# Altium schematic symbol library power.SchLib: 101 symbols
Pins are listed as number, name and electrical type; pins without a type are passive.

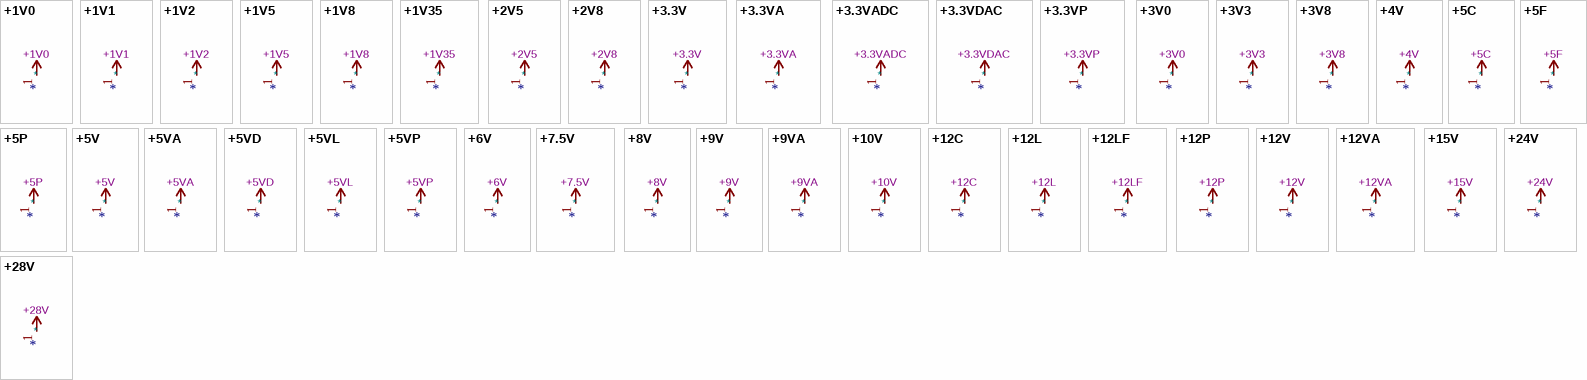
[diagram p0: symbols +1V0 to +28V]

## +1V0
designator *  value +1V0
Power symbol creates a global label with name "+1V0"; Reference: #PWR; ki_keywords: global power; Description_: Power symbol creates a global label with name "+1V0"
pins: 1

## +1V1
designator *  value +1V1
Power symbol creates a global label with name "+1V1"; Reference: #PWR; ki_keywords: global power; Description_: Power symbol creates a global label with name "+1V1"
pins: 1

## +1V2
designator *  value +1V2
Power symbol creates a global label with name "+1V2"; Reference: #PWR; ki_keywords: global power; Description_: Power symbol creates a global label with name "+1V2"
pins: 1

## +1V5
designator *  value +1V5
Power symbol creates a global label with name "+1V5"; Reference: #PWR; ki_keywords: global power; Description_: Power symbol creates a global label with name "+1V5"
pins: 1

## +1V8
designator *  value +1V8
Power symbol creates a global label with name "+1V8"; Reference: #PWR; ki_keywords: global power; Description_: Power symbol creates a global label with name "+1V8"
pins: 1

## +1V35
designator *  value +1V35
Power symbol creates a global label with name "+1V35"; Reference: #PWR; ki_keywords: global power; Description_: Power symbol creates a global label with name "+1V35"
pins: 1

## +2V5
designator *  value +2V5
Power symbol creates a global label with name "+2V5"; Reference: #PWR; ki_keywords: global power; Description_: Power symbol creates a global label with name "+2V5"
pins: 1

## +2V8
designator *  value +2V8
Power symbol creates a global label with name "+2V8"; Reference: #PWR; ki_keywords: global power; Description_: Power symbol creates a global label with name "+2V8"
pins: 1

## +3.3V
designator *  value +3.3V
Power symbol creates a global label with name "+3.3V"; Reference: #PWR; ki_keywords: global power; Description_: Power symbol creates a global label with name "+3.3V"
pins: 1

## +3.3VA
designator *  value +3.3VA
Power symbol creates a global label with name "+3.3VA"; Reference: #PWR; ki_keywords: global power; Description_: Power symbol creates a global label with name "+3.3VA"
pins: 1

## +3.3VADC
designator *  value +3.3VADC
Power symbol creates a global label with name "+3.3VADC"; Reference: #PWR; ki_keywords: global power; Description_: Power symbol creates a global label with name "+3.3VADC"
pins: 1

## +3.3VDAC
designator *  value +3.3VDAC
Power symbol creates a global label with name "+3.3VDAC"; Reference: #PWR; ki_keywords: global power; Description_: Power symbol creates a global label with name "+3.3VDAC"
pins: 1

## +3.3VP
designator *  value +3.3VP
Power symbol creates a global label with name "+3.3VP"; Reference: #PWR; ki_keywords: global power; Description_: Power symbol creates a global label with name "+3.3VP"
pins: 1

## +3V0
designator *  value +3V0
Power symbol creates a global label with name "+3V0"; Reference: #PWR; ki_keywords: global power; Description_: Power symbol creates a global label with name "+3V0"
pins: 1

## +3V3
designator *  value +3V3
Power symbol creates a global label with name "+3V3"; Reference: #PWR; ki_keywords: global power; Description_: Power symbol creates a global label with name "+3V3"
pins: 1

## +3V8
designator *  value +3V8
Power symbol creates a global label with name "+3V8"; Reference: #PWR; ki_keywords: global power; Description_: Power symbol creates a global label with name "+3V8"
pins: 1

## +4V
designator *  value +4V
Power symbol creates a global label with name "+4V"; Reference: #PWR; ki_keywords: global power; Description_: Power symbol creates a global label with name "+4V"
pins: 1

## +5C
designator *  value +5C
Power symbol creates a global label with name "+5C"; Reference: #PWR; ki_keywords: global power; Description_: Power symbol creates a global label with name "+5C"
pins: 1

## +5F
designator *  value +5F
Power symbol creates a global label with name "+5F"; Reference: #PWR; ki_keywords: global power; Description_: Power symbol creates a global label with name "+5F"
pins: 1

## +5P
designator *  value +5P
Power symbol creates a global label with name "+5P"; Reference: #PWR; ki_keywords: global power; Description_: Power symbol creates a global label with name "+5P"
pins: 1

## +5V
designator *  value +5V
Power symbol creates a global label with name "+5V"; Reference: #PWR; ki_keywords: global power; Description_: Power symbol creates a global label with name "+5V"
pins: 1

## +5VA
designator *  value +5VA
Power symbol creates a global label with name "+5VA"; Reference: #PWR; ki_keywords: global power; Description_: Power symbol creates a global label with name "+5VA"
pins: 1

## +5VD
designator *  value +5VD
Power symbol creates a global label with name "+5VD"; Reference: #PWR; ki_keywords: global power; Description_: Power symbol creates a global label with name "+5VD"
pins: 1

## +5VL
designator *  value +5VL
Power symbol creates a global label with name "+5VL"; Reference: #PWR; ki_keywords: global power; Description_: Power symbol creates a global label with name "+5VL"
pins: 1

## +5VP
designator *  value +5VP
Power symbol creates a global label with name "+5VP"; Reference: #PWR; ki_keywords: global power; Description_: Power symbol creates a global label with name "+5VP"
pins: 1

## +6V
designator *  value +6V
Power symbol creates a global label with name "+6V"; Reference: #PWR; ki_keywords: global power; Description_: Power symbol creates a global label with name "+6V"
pins: 1

## +7.5V
designator *  value +7.5V
Power symbol creates a global label with name "+7.5V"; Reference: #PWR; ki_keywords: global power; Description_: Power symbol creates a global label with name "+7.5V"
pins: 1

## +8V
designator *  value +8V
Power symbol creates a global label with name "+8V"; Reference: #PWR; ki_keywords: global power; Description_: Power symbol creates a global label with name "+8V"
pins: 1

## +9V
designator *  value +9V
Power symbol creates a global label with name "+9V"; Reference: #PWR; ki_keywords: global power; Description_: Power symbol creates a global label with name "+9V"
pins: 1

## +9VA
designator *  value +9VA
Power symbol creates a global label with name "+9VA"; Reference: #PWR; ki_keywords: global power; Description_: Power symbol creates a global label with name "+9VA"
pins: 1

## +10V
designator *  value +10V
Power symbol creates a global label with name "+10V"; Reference: #PWR; ki_keywords: global power; Description_: Power symbol creates a global label with name "+10V"
pins: 1

## +12C
designator *  value +12C
Power symbol creates a global label with name "+12C"; Reference: #PWR; ki_keywords: global power; Description_: Power symbol creates a global label with name "+12C"
pins: 1

## +12L
designator *  value +12L
Power symbol creates a global label with name "+12L"; Reference: #PWR; ki_keywords: global power; Description_: Power symbol creates a global label with name "+12L"
pins: 1

## +12LF
designator *  value +12LF
Power symbol creates a global label with name "+12LF"; Reference: #PWR; ki_keywords: global power; Description_: Power symbol creates a global label with name "+12LF"
pins: 1

## +12P
designator *  value +12P
Power symbol creates a global label with name "+12P"; Reference: #PWR; ki_keywords: global power; Description_: Power symbol creates a global label with name "+12P"
pins: 1

## +12V
designator *  value +12V
Power symbol creates a global label with name "+12V"; Reference: #PWR; ki_keywords: global power; Description_: Power symbol creates a global label with name "+12V"
pins: 1

## +12VA
designator *  value +12VA
Power symbol creates a global label with name "+12VA"; Reference: #PWR; ki_keywords: global power; Description_: Power symbol creates a global label with name "+12VA"
pins: 1

## +15V
designator *  value +15V
Power symbol creates a global label with name "+15V"; Reference: #PWR; ki_keywords: global power; Description_: Power symbol creates a global label with name "+15V"
pins: 1

## +24V
designator *  value +24V
Power symbol creates a global label with name "+24V"; Reference: #PWR; ki_keywords: global power; Description_: Power symbol creates a global label with name "+24V"
pins: 1

## +28V
designator *  value +28V
Power symbol creates a global label with name "+28V"; Reference: #PWR; ki_keywords: global power; Description_: Power symbol creates a global label with name "+28V"
pins: 1

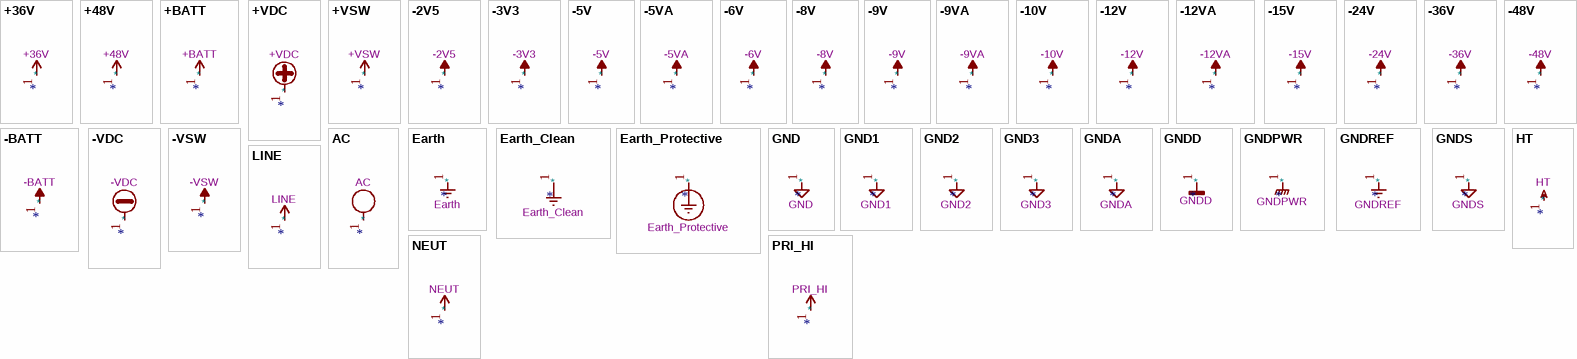
[diagram p1: symbols +36V to PRI_HI]

## +36V
designator *  value +36V
Power symbol creates a global label with name "+36V"; Reference: #PWR; ki_keywords: global power; Description_: Power symbol creates a global label with name "+36V"
pins: 1

## +48V
designator *  value +48V
Power symbol creates a global label with name "+48V"; Reference: #PWR; ki_keywords: global power; Description_: Power symbol creates a global label with name "+48V"
pins: 1

## +BATT
designator *  value +BATT
Power symbol creates a global label with name "+BATT"; Reference: #PWR; ki_keywords: global power battery; Description_: Power symbol creates a global label with name "+BATT"
pins: 1

## +VDC
designator *  value +VDC
Power symbol creates a global label with name "+VDC"; Reference: #PWR; ki_keywords: global power; Description_: Power symbol creates a global label with name "+VDC"
pins: 1

## +VSW
designator *  value +VSW
Power symbol creates a global label with name "+VSW"; Reference: #PWR; ki_keywords: global power; Description_: Power symbol creates a global label with name "+VSW"
pins: 1

## -2V5
designator *  value -2V5
Power symbol creates a global label with name "-2V5"; Reference: #PWR; ki_keywords: global power; Description_: Power symbol creates a global label with name "-2V5"
pins: 1

## -3V3
designator *  value -3V3
Power symbol creates a global label with name "-3V3"; Reference: #PWR; ki_keywords: global power; Description_: Power symbol creates a global label with name "-3V3"
pins: 1

## -5V
designator *  value -5V
Power symbol creates a global label with name "-5V"; Reference: #PWR; ki_keywords: global power; Description_: Power symbol creates a global label with name "-5V"
pins: 1

## -5VA
designator *  value -5VA
Power symbol creates a global label with name "-5VA"; Reference: #PWR; ki_keywords: global power; Description_: Power symbol creates a global label with name "-5VA"
pins: 1

## -6V
designator *  value -6V
Power symbol creates a global label with name "-6V"; Reference: #PWR; ki_keywords: global power; Description_: Power symbol creates a global label with name "-6V"
pins: 1

## -8V
designator *  value -8V
Power symbol creates a global label with name "-8V"; Reference: #PWR; ki_keywords: global power; Description_: Power symbol creates a global label with name "-8V"
pins: 1

## -9V
designator *  value -9V
Power symbol creates a global label with name "-9V"; Reference: #PWR; ki_keywords: global power; Description_: Power symbol creates a global label with name "-9V"
pins: 1

## -9VA
designator *  value -9VA
Power symbol creates a global label with name "-9VA"; Reference: #PWR; ki_keywords: global power; Description_: Power symbol creates a global label with name "-9VA"
pins: 1

## -10V
designator *  value -10V
Power symbol creates a global label with name "-10V"; Reference: #PWR; ki_keywords: global power; Description_: Power symbol creates a global label with name "-10V"
pins: 1

## -12V
designator *  value -12V
Power symbol creates a global label with name "-12V"; Reference: #PWR; ki_keywords: global power; Description_: Power symbol creates a global label with name "-12V"
pins: 1

## -12VA
designator *  value -12VA
Power symbol creates a global label with name "-12VA"; Reference: #PWR; ki_keywords: global power; Description_: Power symbol creates a global label with name "-12VA"
pins: 1

## -15V
designator *  value -15V
Power symbol creates a global label with name "-15V"; Reference: #PWR; ki_keywords: global power; Description_: Power symbol creates a global label with name "-15V"
pins: 1

## -24V
designator *  value -24V
Power symbol creates a global label with name "-24V"; Reference: #PWR; ki_keywords: global power; Description_: Power symbol creates a global label with name "-24V"
pins: 1

## -36V
designator *  value -36V
Power symbol creates a global label with name "-36V"; Reference: #PWR; ki_keywords: global power; Description_: Power symbol creates a global label with name "-36V"
pins: 1

## -48V
designator *  value -48V
Power symbol creates a global label with name "-48V"; Reference: #PWR; ki_keywords: global power; Description_: Power symbol creates a global label with name "-48V"
pins: 1

## -BATT
designator *  value -BATT
Power symbol creates a global label with name "-BATT"; Reference: #PWR; ki_keywords: global power battery; Description_: Power symbol creates a global label with name "-BATT"
pins: 1

## -VDC
designator *  value -VDC
Power symbol creates a global label with name "-VDC"; Reference: #PWR; ki_keywords: global power; Description_: Power symbol creates a global label with name "-VDC"
pins: 1

## -VSW
designator *  value -VSW
Power symbol creates a global label with name "-VSW"; Reference: #PWR; ki_keywords: global power; Description_: Power symbol creates a global label with name "-VSW"
pins: 1

## AC
designator *  value AC
Power symbol creates a global label with name "AC"; Reference: #PWR; ki_keywords: global power; Description_: Power symbol creates a global label with name "AC"
pins: 1

## Earth
designator *  value Earth
Power symbol creates a global label with name "Earth"; Reference: #PWR; ki_keywords: global ground gnd; Datasheet: ~; Description_: Power symbol creates a global label with name "Earth"
pins: 1

## Earth_Clean
designator *  value Earth_Clean
Power symbol creates a global label with name "Earth_Clean"; Reference: #PWR; ki_keywords: global ground gnd clean signal; Datasheet: ~; Description_: Power symbol creates a global label with name "Earth_Clean"
pins: 1

## Earth_Protective
designator *  value Earth_Protective
Power symbol creates a global label with name "Earth_Protective"; Reference: #PWR; ki_keywords: global ground gnd clean; Datasheet: ~; Description_: Power symbol creates a global label with name "Earth_Protective"
pins: 1

## GND
designator *  value GND
Power symbol creates a global label with name "GND" , ground; Reference: #PWR; ki_keywords: global power; Description_: Power symbol creates a global label with name "GND" , ground
pins: 1

## GND1
designator *  value GND1
Power symbol creates a global label with name "GND1" , ground; Reference: #PWR; ki_keywords: global power; Description_: Power symbol creates a global label with name "GND1" , ground
pins: 1

## GND2
designator *  value GND2
Power symbol creates a global label with name "GND2" , ground; Reference: #PWR; ki_keywords: global power; Description_: Power symbol creates a global label with name "GND2" , ground
pins: 1

## GND3
designator *  value GND3
Power symbol creates a global label with name "GND3" , ground; Reference: #PWR; ki_keywords: global power; Description_: Power symbol creates a global label with name "GND3" , ground
pins: 1

## GNDA
designator *  value GNDA
Power symbol creates a global label with name "GNDA" , analog ground; Reference: #PWR; ki_keywords: global power; Description_: Power symbol creates a global label with name "GNDA" , analog ground
pins: 1

## GNDD
designator *  value GNDD
Power symbol creates a global label with name "GNDD" , digital ground; Reference: #PWR; ki_keywords: global power; Description_: Power symbol creates a global label with name "GNDD" , digital ground
pins: 1

## GNDPWR
designator *  value GNDPWR
Power symbol creates a global label with name "GNDPWR" , global ground; Reference: #PWR; Description_: Power symbol creates a global label with name "GNDPWR" , global ground; ki_keywords: global ground
pins: 1

## GNDREF
designator *  value GNDREF
Power symbol creates a global label with name "GNDREF" , reference supply ground; Reference: #PWR; ki_keywords: global power; Description_: Power symbol creates a global label with name "GNDREF" , reference supply ground
pins: 1

## GNDS
designator *  value GNDS
Power symbol creates a global label with name "GNDS" , signal ground; Reference: #PWR; ki_keywords: global power; Description_: Power symbol creates a global label with name "GNDS" , signal ground
pins: 1

## HT
designator *  value HT
Power symbol creates a global label with name "HT"; Reference: #PWR; ki_keywords: global power; Description_: Power symbol creates a global label with name "HT"
pins: 1

## LINE
designator *  value LINE
Power symbol creates a global label with name "LINE"; Reference: #PWR; ki_keywords: global power; Description_: Power symbol creates a global label with name "LINE"
pins: 1

## NEUT
designator *  value NEUT
Power symbol creates a global label with name "NEUT"; Reference: #PWR; ki_keywords: global power; Description_: Power symbol creates a global label with name "NEUT"
pins: 1

## PRI_HI
designator *  value PRI_HI
Power symbol creates a global label with name "PRI_HI"; Reference: #PWR; ki_keywords: global power; Description_: Power symbol creates a global label with name "PRI_HI"
pins: 1

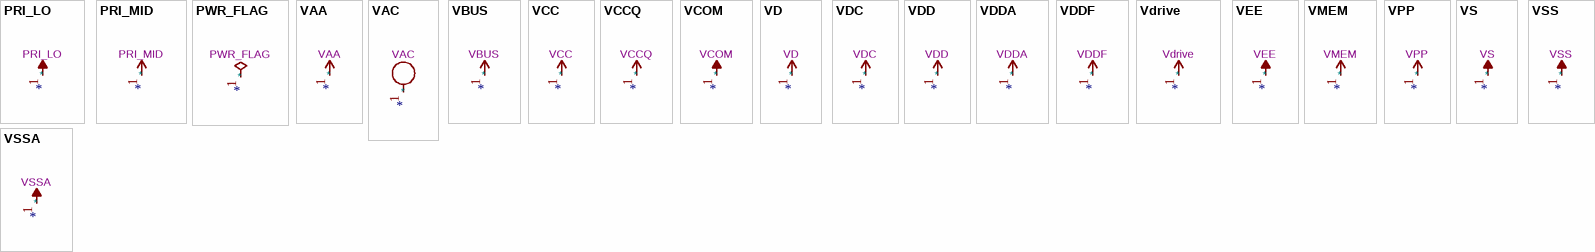
[diagram p2: symbols PRI_LO to VSSA]

## PRI_LO
designator *  value PRI_LO
Power symbol creates a global label with name "PRI_LO"; Reference: #PWR; ki_keywords: global power; Description_: Power symbol creates a global label with name "PRI_LO"
pins: 1

## PRI_MID
designator *  value PRI_MID
Power symbol creates a global label with name "PRI_MID"; Reference: #PWR; ki_keywords: global power; Description_: Power symbol creates a global label with name "PRI_MID"
pins: 1

## PWR_FLAG
designator *  value PWR_FLAG
Special symbol for telling ERC where power comes from; Reference: #FLG; ki_keywords: flag power; Datasheet: ~; Description_: Special symbol for telling ERC where power comes from
pins: 1

## VAA
designator *  value VAA
Power symbol creates a global label with name "VAA"; Reference: #PWR; ki_keywords: global power; Description_: Power symbol creates a global label with name "VAA"
pins: 1

## VAC
designator *  value VAC
Power symbol creates a global label with name "VAC"; Reference: #PWR; ki_keywords: global power; Description_: Power symbol creates a global label with name "VAC"
pins: 1

## VBUS
designator *  value VBUS
Power symbol creates a global label with name "VBUS"; Reference: #PWR; ki_keywords: global power; Description_: Power symbol creates a global label with name "VBUS"
pins: 1

## VCC
designator *  value VCC
Power symbol creates a global label with name "VCC"; Reference: #PWR; ki_keywords: global power; Description_: Power symbol creates a global label with name "VCC"
pins: 1

## VCCQ
designator *  value VCCQ
Power symbol creates a global label with name "VCCQ"; Reference: #PWR; ki_keywords: global power; Description_: Power symbol creates a global label with name "VCCQ"
pins: 1

## VCOM
designator *  value VCOM
Power symbol creates a global label with name "VCOM"; Reference: #PWR; ki_keywords: global power; Description_: Power symbol creates a global label with name "VCOM"
pins: 1

## VD
designator *  value VD
Power symbol creates a global label with name "VD"; Reference: #PWR; ki_keywords: global power; Description_: Power symbol creates a global label with name "VD"
pins: 1

## VDC
designator *  value VDC
Power symbol creates a global label with name "VDC"; Reference: #PWR; ki_keywords: global power; Description_: Power symbol creates a global label with name "VDC"
pins: 1

## VDD
designator *  value VDD
Power symbol creates a global label with name "VDD"; Reference: #PWR; ki_keywords: global power; Description_: Power symbol creates a global label with name "VDD"
pins: 1

## VDDA
designator *  value VDDA
Power symbol creates a global label with name "VDDA"; Reference: #PWR; ki_keywords: global power; Description_: Power symbol creates a global label with name "VDDA"
pins: 1

## VDDF
designator *  value VDDF
Power symbol creates a global label with name "VDDF"; Reference: #PWR; ki_keywords: global power; Description_: Power symbol creates a global label with name "VDDF"
pins: 1

## Vdrive
designator *  value Vdrive
Power symbol creates a global label with name "Vdrive"; Reference: #PWR; ki_keywords: global power; Description_: Power symbol creates a global label with name "Vdrive"
pins: 1

## VEE
designator *  value VEE
Power symbol creates a global label with name "VEE"; Reference: #PWR; ki_keywords: global power; Description_: Power symbol creates a global label with name "VEE"
pins: 1

## VMEM
designator *  value VMEM
Power symbol creates a global label with name "VMEM"; Reference: #PWR; ki_keywords: global power; Description_: Power symbol creates a global label with name "VMEM"
pins: 1

## VPP
designator *  value VPP
Power symbol creates a global label with name "VPP"; Reference: #PWR; ki_keywords: global power; Description_: Power symbol creates a global label with name "VPP"
pins: 1

## VS
designator *  value VS
Power symbol creates a global label with name "VS"; Reference: #PWR; ki_keywords: global power; Description_: Power symbol creates a global label with name "VS"
pins: 1

## VSS
designator *  value VSS
Power symbol creates a global label with name "VSS"; Reference: #PWR; ki_keywords: global power; Description_: Power symbol creates a global label with name "VSS"
pins: 1

## VSSA
designator *  value VSSA
Power symbol creates a global label with name "VSSA"; Reference: #PWR; ki_keywords: global power; Description_: Power symbol creates a global label with name "VSSA"
pins: 1